# Altium footprint library 130020900#NIP_PD_电路板印制板.PcbLib: 105 footprints (part 3 of 7)
Each footprint in its own frame and in the unit in brackets; x right, y up, seen from the top. Pads: shape width x height; smd on the part's side, far side on the other; paste and mask are expansions set on the pad; w line width, h text height; cw(c..) or ccw(c..) is an arc to the next point about the centre after c.
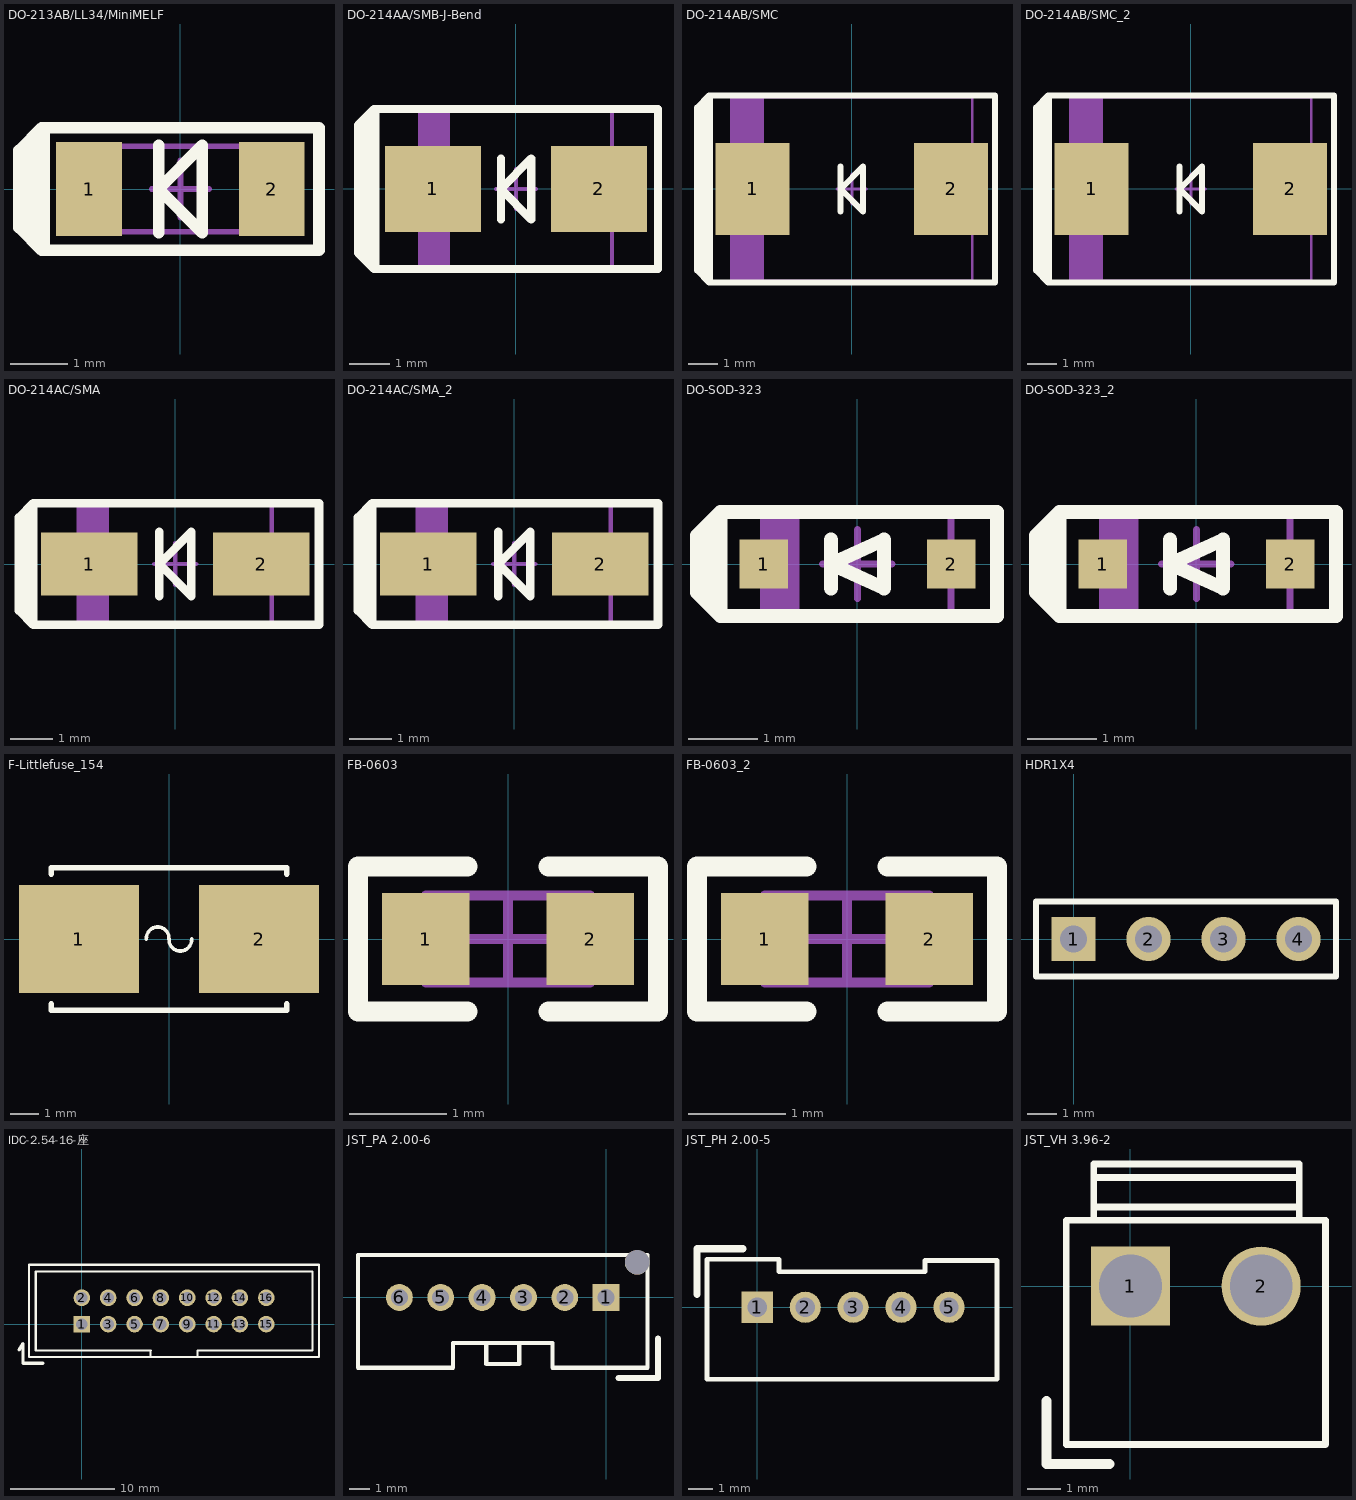
[diagram p2: the footprints below, top view; thin cyan lines are the x and y axes]

## DO-213AB/LL34/MiniMELF [mm] "MELF Diode, 2-Leads, Body 3.40x1.45mm, IPC Medium Density"
height 1.5
pads (2):
  rect 1.15x1.65 smd: 1(-1.6,0) 2(1.6,0)
Top Overlay:
  region: -2.385,1.075 -2.785,0.675 -2.825,0.675 -2.825,-0.675 -2.425,-1.075 -2.385,-1.075
  lines w0.203: -0.38,-0.765 -0.38,0.765 ; -2.385,-1.075 -2.425,-1.075 -2.825,-0.675 -2.825,0.675 -2.425,1.075 -2.385,1.075 ; -2.385,-1.075 2.425,-1.075 2.425,1.075 -2.385,1.075 ; -2.385,-1.075 -2.385,1.075 ; -0.38,0 0.38,-0.765 0.38,0.765 -0.38,0
Mechanical 13:
  rectangle: -1.755,-0.75 -1.255,0.747
  lines w0.1: -1.755,-0.75 1.755,-0.75 1.755,0.75 -1.755,0.75 -1.755,-0.75
Mechanical 15:
  lines w0.1: -0.5,0 0.5,0 ; 0,-0.5 0,0.5
3D body: height 1.5, standoff 0, extent 1.255,-0.751 1.755,0.749
3D body: height 1.49, standoff 0.04, extent -1.255,-0.721 1.255,0.719
3D body: height 1.49, standoff 0.04, extent -0.655,-0.722 -0.055,0.72
3D body: height 1.5, standoff 0, extent -1.755,-0.751 -1.255,0.749

## DO-214AA/SMB-J-Bend [mm] "Molded Diode, 2-Leads, Body 5.34x3.62mm, IPC Medium Density"
height 2.62
pads (2):
  rect 2.4x2.15 smd: 1(-2.075,0) 2(2.075,0)
Top Overlay:
  region: -3.51,2 -3.91,1.6 -3.95,1.6 -3.95,-1.6 -3.55,-2 -3.51,-2
  lines w0.203: -0.375,-0.765 -0.375,0.765 ; -3.51,-2 3.55,-2 3.55,2 -3.51,2 ; -3.51,-2 -3.51,2 ; -3.51,-2 -3.55,-2 -3.95,-1.6 -3.95,1.6 -3.55,2 -3.51,2 ; -0.38,0 0.38,-0.765 0.38,0.765 -0.38,0
Mechanical 13:
  rectangle: -2.4,-1.97 -1.648,1.97
  lines w0.1: -2.4,-1.97 2.4,-1.97 2.4,1.97 -2.4,1.97 -2.4,-1.97
Mechanical 15:
  lines w0.1: -0.5,0 0.5,0 ; 0,-0.5 0,0.5
3D body: height 2.62, standoff 0, extent -2.4,-1.97 2.4,1.97

## DO-214AB/SMC [mm] "Molded Diode, 2-Leads, Body 6.61x5.81mm, IPC Medium Density"
height 2
pads (2):
  rect 2.5x3.1 smd: 1(-3.35,0) 2(3.35,0)
Top Overlay:
  region: -4.825,3.15 -5.225,2.75 -5.225,-2.75 -4.825,-3.15 -4.825,3.11 -4.785,3.15
  lines w0.203: -0.382,-0.765 -0.382,0.765 ; -4.785,-3.15 -4.825,-3.15 -5.225,-2.75 -5.225,2.75 -4.825,3.15 -4.785,3.15 ; -4.785,-3.15 4.825,-3.15 4.825,3.15 -4.785,3.15 ; -4.785,-3.15 -4.785,3.15 ; -0.38,0 0.38,-0.765 0.38,0.765 -0.38,0
Mechanical 13:
  rectangle: -4.065,-3.11 -2.972,3.11
  lines w0.1: -4.065,-3.11 4.065,-3.11 4.065,3.11 -4.065,3.11 -4.065,-3.11
Mechanical 15:
  lines w0.1: -0.5,0 0.5,0 ; 0,-0.5 0,0.5
3D body: height 2, standoff 0, extent -4.065,-3.11 4.065,3.11

## DO-214AB/SMC_2 [mm]
pads (2):
  rect 2.5x3.1 smd: 1(-3.35,0) 2(3.35,0)
Top Overlay:
  region: -4.825,3.15 -5.225,2.75 -5.225,-2.75 -4.825,-3.15 -4.825,3.11 -4.785,3.15
  lines w0.203: -0.382,-0.765 -0.382,0.765 ; -4.785,-3.15 -4.785,3.15 ; -4.785,-3.15 4.825,-3.15 4.825,3.15 -4.785,3.15 ; -4.785,-3.15 -4.825,-3.15 -5.225,-2.75 -5.225,2.75 -4.825,3.15 -4.785,3.15 ; -0.38,0 0.38,0.765 0.38,-0.765 -0.38,0
Mechanical 13:
  rectangle: -4.065,-3.11 -2.972,3.11
  lines w0.1: -4.065,-3.11 -4.065,3.11 4.065,3.11 4.065,-3.11 -4.065,-3.11
Mechanical 15:
  lines w0.1: -0.5,0 0.5,0 ; 0,-0.5 0,0.5
3D body: height 2, standoff 0, extent -4.065,-3.11 4.065,3.11

## DO-214AC/SMA [mm] "Molded Diode, 2-Leads, Body 4.33x2.56mm, IPC Medium Density"
height 2
pads (2):
  rect 2.3x1.5 smd: 1(-2.05,0) 2(2.05,0)
Top Overlay:
  region: -3.385,1.45 -3.725,1.11 -3.725,-1.05 -3.385,-1.39
  lines w0.203: -3.725,1.05 -3.725,-1.05 -3.725,-1.11 -3.385,-1.45 ; -3.725,1.11 -3.385,1.45 ; -0.38,-0.765 -0.38,0.765 ; -3.385,-1.45 -3.385,1.45 ; -3.385,-1.45 3.425,-1.45 3.425,1.45 -3.385,1.45 ; -0.38,0 0.38,-0.765 0.38,0.765 -0.38,0
Mechanical 13:
  rectangle: -2.3,-1.448 -1.583,1.45
  lines w0.1: -2.3,-1.45 -2.3,1.45 2.3,1.45 2.3,-1.45 -2.3,-1.45
Mechanical 15:
  lines w0.1: -0.5,0 0.5,0 ; 0,-0.5 0,0.5
3D body: height 2, standoff 0, extent -2.3,-1.45 2.3,1.45

## DO-214AC/SMA_2 [mm]
pads (2):
  rect 2.3x1.5 smd: 1(-2.05,0) 2(2.05,0)
Top Overlay:
  region: -3.385,1.45 -3.725,1.11 -3.725,-1.05 -3.385,-1.39
  lines w0.203: -3.725,1.05 -3.725,-1.05 -3.725,-1.11 -3.385,-1.45 ; -3.725,1.11 -3.385,1.45 ; -0.38,-0.765 -0.38,0.765 ; -3.385,-1.45 3.425,-1.45 3.425,1.45 -3.385,1.45 ; -3.385,-1.45 -3.385,1.45 ; -0.38,0 0.38,0.765 0.38,-0.765 -0.38,0
Mechanical 13:
  rectangle: -2.3,-1.448 -1.583,1.45
  lines w0.1: -2.3,-1.45 2.3,-1.45 2.3,1.45 -2.3,1.45 -2.3,-1.45
Mechanical 15:
  lines w0.1: -0.5,0 0.5,0 ; 0,-0.5 0,0.5
3D body: height 2, standoff 0, extent -2.3,-1.45 2.3,1.45

## DO-SOD-323 [mm] "Molded Diode, 2-Leads, Body 1.70x1.30mm, IPC Medium Density"
height 1
pads (2):
  rect 0.7x0.7 smd: 1(-1.35,0) 2(1.35,0)
Top Overlay:
  region: -1.97,0.75 -2.31,0.41 -2.31,-0.41 -1.97,-0.75
  lines w0.2: -1.97,-0.75 2.01,-0.75 ; -1.97,0.75 2.01,0.75
  lines w0.203: -0.379,-0.35 -0.379,0.35 ; 2.01,-0.75 2.01,0.75 ; -2.31,-0.41 -1.97,-0.75 -1.97,0.75 -2.31,0.41 -2.31,0.35 -2.31,-0.35 -2.31,-0.41 ; -0.379,0 0.381,0.35 0.381,-0.35 -0.379,0
Mechanical 13:
  rectangle: -1.35,-0.7 -0.832,0.7
  lines w0.1: -1.35,-0.7 -1.35,0.7 1.35,0.7 1.35,-0.7 -1.35,-0.7
Mechanical 15:
  lines w0.1: -0.5,0 0.5,0 ; 0,-0.5 0,0.5
3D body: height 1.1, standoff 0, extent -1.35,-0.7 1.35,0.7

## DO-SOD-323_2 [mm]
pads (2):
  rect 0.7x0.7 smd: 1(-1.35,0) 2(1.35,0)
Top Overlay:
  region: -1.97,0.75 -2.31,0.41 -2.31,-0.41 -1.97,-0.75
  lines w0.2: -1.97,-0.75 2.01,-0.75 ; -1.97,0.75 2.01,0.75
  lines w0.203: -0.379,-0.35 -0.379,0.35 ; 2.01,-0.75 2.01,0.75 ; -2.31,-0.41 -2.31,-0.35 -2.31,0.35 -2.31,0.41 -1.97,0.75 -1.97,-0.75 -2.31,-0.41 ; -0.379,0 0.381,-0.35 0.381,0.35 -0.379,0
Mechanical 13:
  rectangle: -1.35,-0.7 -0.832,0.7
  lines w0.1: -1.35,-0.7 1.35,-0.7 1.35,0.7 -1.35,0.7 -1.35,-0.7
Mechanical 15:
  lines w0.1: -0.5,0 0.5,0 ; 0,-0.5 0,0.5
3D body: height 1.1, standoff 0, extent -1.35,-0.7 1.35,0.7

## F-Littlefuse_154 [mm]
height 1.6
pads (2):
  rect 4.24x3.81 smd: 1(-3.185,0) 2(3.185,0)
Top Overlay:
  lines w0.127: -0.799,0 cw(c-0.399,0.024) 0,0 ccw(c0.399,-0.024) 0.799,0
  lines w0.203: -4.166,-2.3 -4.166,-2.516 4.166,-2.516 4.166,-2.3 ; -4.166,2.3 -4.166,2.516 4.166,2.516 4.166,2.3

## FB-0603 [mm] "Chip Resistor, 2-Leads, Body 1.60x0.80mm, IPC Medium Density"
height 0.45
pads (2):
  rect 0.9x0.95 smd: 1(-0.85,0) 2(0.85,0)
Top Overlay:
  lines w0.203: -0.418,-0.75 -1.55,-0.75 -1.55,0.75 -0.418,0.75 ; 0.418,-0.75 1.55,-0.75 1.55,0.75 0.418,0.75
Mechanical 13:
  lines w0.1: -0.85,-0.45 0.85,-0.45 0.85,0.45 -0.85,0.45 -0.85,-0.45
Mechanical 15:
  lines w0.1: -0.45,0 0.45,0 ; 0,-0.45 0,0.45
3D body: height 0.45, standoff 0, extent 0.6,-0.45 0.85,0.45
3D body: height 0.45, standoff 0, extent -0.85,-0.45 -0.6,0.45
3D body: height 0.45, standoff 0, extent -0.6,-0.45 0.6,0.45

## FB-0603_2 [mm]
pads (2):
  rect 0.9x0.95 smd: 1(-0.85,0) 2(0.85,0)
Top Overlay:
  lines w0.203: -0.418,-0.75 -1.55,-0.75 -1.55,0.75 -0.418,0.75 ; 0.418,-0.75 1.55,-0.75 1.55,0.75 0.418,0.75
Mechanical 13:
  lines w0.1: -0.85,-0.45 0.85,-0.45 0.85,0.45 -0.85,0.45 -0.85,-0.45
Mechanical 15:
  lines w0.1: -0.45,0 0.45,0 ; 0,-0.45 0,0.45
3D body: height 0.45, standoff 0, extent 0.6,-0.45 0.85,0.45
3D body: height 0.45, standoff 0, extent -0.85,-0.45 -0.6,0.45
3D body: height 0.45, standoff 0, extent -0.6,-0.45 0.6,0.45

## HDR1X4 [mm] "Connector; Header; 4 Position"
height 1.6
pads (4):
  rect 1.5x1.5 hole 0.9: 1(0,0)
  round 1.5 hole 0.9: 2(2.54,0) 3(5.08,0) 4(7.62,0)
Top Overlay:
  lines w0.2: -1.27,-1.27 -1.27,1.27 8.89,1.27 8.89,-1.27 -1.27,-1.27

## IDC-2.54-16-座 [mm]
pads (16):
  rect 1.6x1.6 hole 1.1: 1(0,0)
  round 1.6 hole 1.1: 2(0,2.54) 3(2.54,0) 4(2.54,2.54) 5(5.08,0) 6(5.08,2.54) 7(7.62,0) 8(7.62,2.54) 9(10.16,0) 10(10.16,2.54) 11(12.7,0) 12(12.7,2.54) 13(15.24,0) 14(15.24,2.54) 15(17.78,0) 16(17.78,2.54)
Top Overlay:
  lines w0.2: 6.64,-3.175 6.64,-2.54 ; 11.14,-3.175 11.14,-2.54
  lines w0.203: 6.64,-2.54 -4.445,-2.54 -4.445,5.08 22.225,5.08 22.225,-2.54 11.14,-2.54 ; -5.08,-3.175 22.86,-3.175 22.86,5.715 -5.08,5.715 -5.08,-3.175
  lines w0.3: -6.055,-2.499 -5.674,-1.864 -5.674,-3.769 -3.769,-3.769

## JST_PA 2.00-6 [mm]
height 2
pads (7):
  rect 1.3x1.3 hole 0.82: 1(0,0)
  round 1.3 hole 0.82: 2(-2,0) 3(-4,0) 4(-6,0) 5(-8,0) 6(-10,0)
  round 1.2 hole 1.2: ""(1.5,1.7)
Top Overlay:
  lines w0.2: -12,-3.4 -12,0 -12,1.9 -12,2.057 -4,2.057 2,2.057 ; 2,1.575 2,0 ; 2,1.8 2,0 ; 2,0 2,-3.4 2,0 ; 2,0.94 2,2.057 ; 2,0.94 2,2.057 ; 2,0.94 2,2.057
  lines w0.203: -12,-3.4 -7.4,-3.4 -7.4,-2.199 -2.6,-2.199 -2.6,-3.4 2,-3.4 2,0 2,1.702 ; -5.8,-2.199 -5.8,-3.221 -4.2,-3.22 -4.2,-2.199
  lines w0.3: 0.602,-3.903 2.507,-3.903 2.507,-1.998

## JST_PH 2.00-5 [mm]
height 12.75
pads (5):
  rect 1.3x1.3 hole 0.8: 1(0,0)
  round 1.3 hole 0.8: 2(2,0) 3(4,0) 4(6,0) 5(8,0)
Top Overlay:
  lines w0.2: 0.9,1.479 7,1.479 7,1.947 10,1.947 10,-3 -2.1,-3 -2.1,2 0.9,2 0.9,1.532
  lines w0.3: -2.515,0.533 -2.515,2.438 -0.61,2.438

## JST_VH 3.96-2 [mm]
pads (2):
  rect 2.4x2.4 hole 1.9: 1(0,0)
  round 2.4 hole 1.9: 2(3.96,0)
Top Overlay:
  lines w0.2: -1.95,1.945 -1.95,0 -1.95,-4.8 5.91,-4.8 5.91,1.99 5.846,1.99 ; -1.95,2 0,2 5.91,2 ; -1.117,2.04 -1.117,3.7 1.98,3.7 5.114,3.7 5.114,2.06 ; -1.096,3.291 5.088,3.291 ; -1.073,2.396 5.111,2.396
  lines w0.3: -2.544,-3.486 -2.544,-5.391 -0.639,-5.391